# EAGLE library part BQ25606 (library SobieskiSat2)
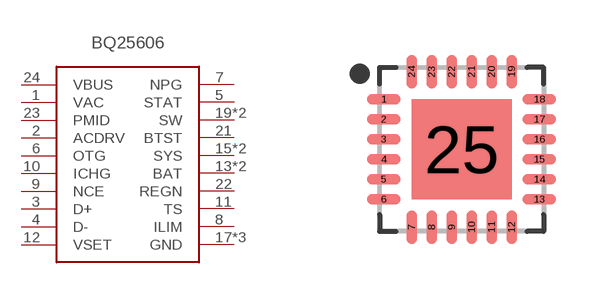
[diagram p9: symbol with the pads of QFN50P400X400X100-25T250N; footprint QFN50P400X400X100-25T250N]

Designator prefix -

## BQ25606  [QFN50P400X400X100-25T250N]
1  VAC
2  ACDRV
3  D+
4  D-
5  STAT
6  OTG
7  NPG
8  ILIM
9  NCE
10  ICHG
11  TS
12  VSET
13  BAT
14  BAT
15  SYS
16  SYS
17  GND
18  GND
19  SW
20  SW
21  BTST
22  REGN
23  PMID
24  VBUS
25  GND

## Footprint QFN50P400X400X100-25T250N (pad centres in mm)
24-QFN, 0.50 mm pitch, 4.00 X 4.00 X 1.00 mm body, 2.50 X 2.50 mm thermal pad 24-pin QFN package with 0.50 mm pitch with body size 4.00 X 4.00 X 1.00 mm and thermal pad size 2.50 X 2.50 mm
smd 0.84 x 0.264: 1 -1.945,1.25; 2 -1.945,0.75; 3 -1.945,0.25; 4 -1.945,-0.25; 5 -1.945,-0.75; 6 -1.945,-1.25; 13 1.945,-1.25; 14 1.945,-0.75; 15 1.945,-0.25; 16 1.945,0.25; 17 1.945,0.75; 18 1.945,1.25
smd 0.264 x 0.84: 7 -1.25,-1.945; 8 -0.75,-1.945; 9 -0.25,-1.945; 10 0.25,-1.945; 11 0.75,-1.945; 12 1.25,-1.945; 19 1.25,1.945; 20 0.75,1.945; 21 0.25,1.945; 22 -0.25,1.945; 23 -0.75,1.945; 24 -1.25,1.945
smd 2.5 x 2.5: 25 0,0